# Altium footprint library GFZJ 主控制板.PcbLib: 26 footprints (part 1 of 2)
Each footprint in its own frame and in the unit in brackets; x right, y up, seen from the top. Pads: shape width x height; smd on the part's side, far side on the other; paste and mask are expansions set on the pad; w line width, h text height; cw(c..) or ccw(c..) is an arc to the next point about the centre after c.
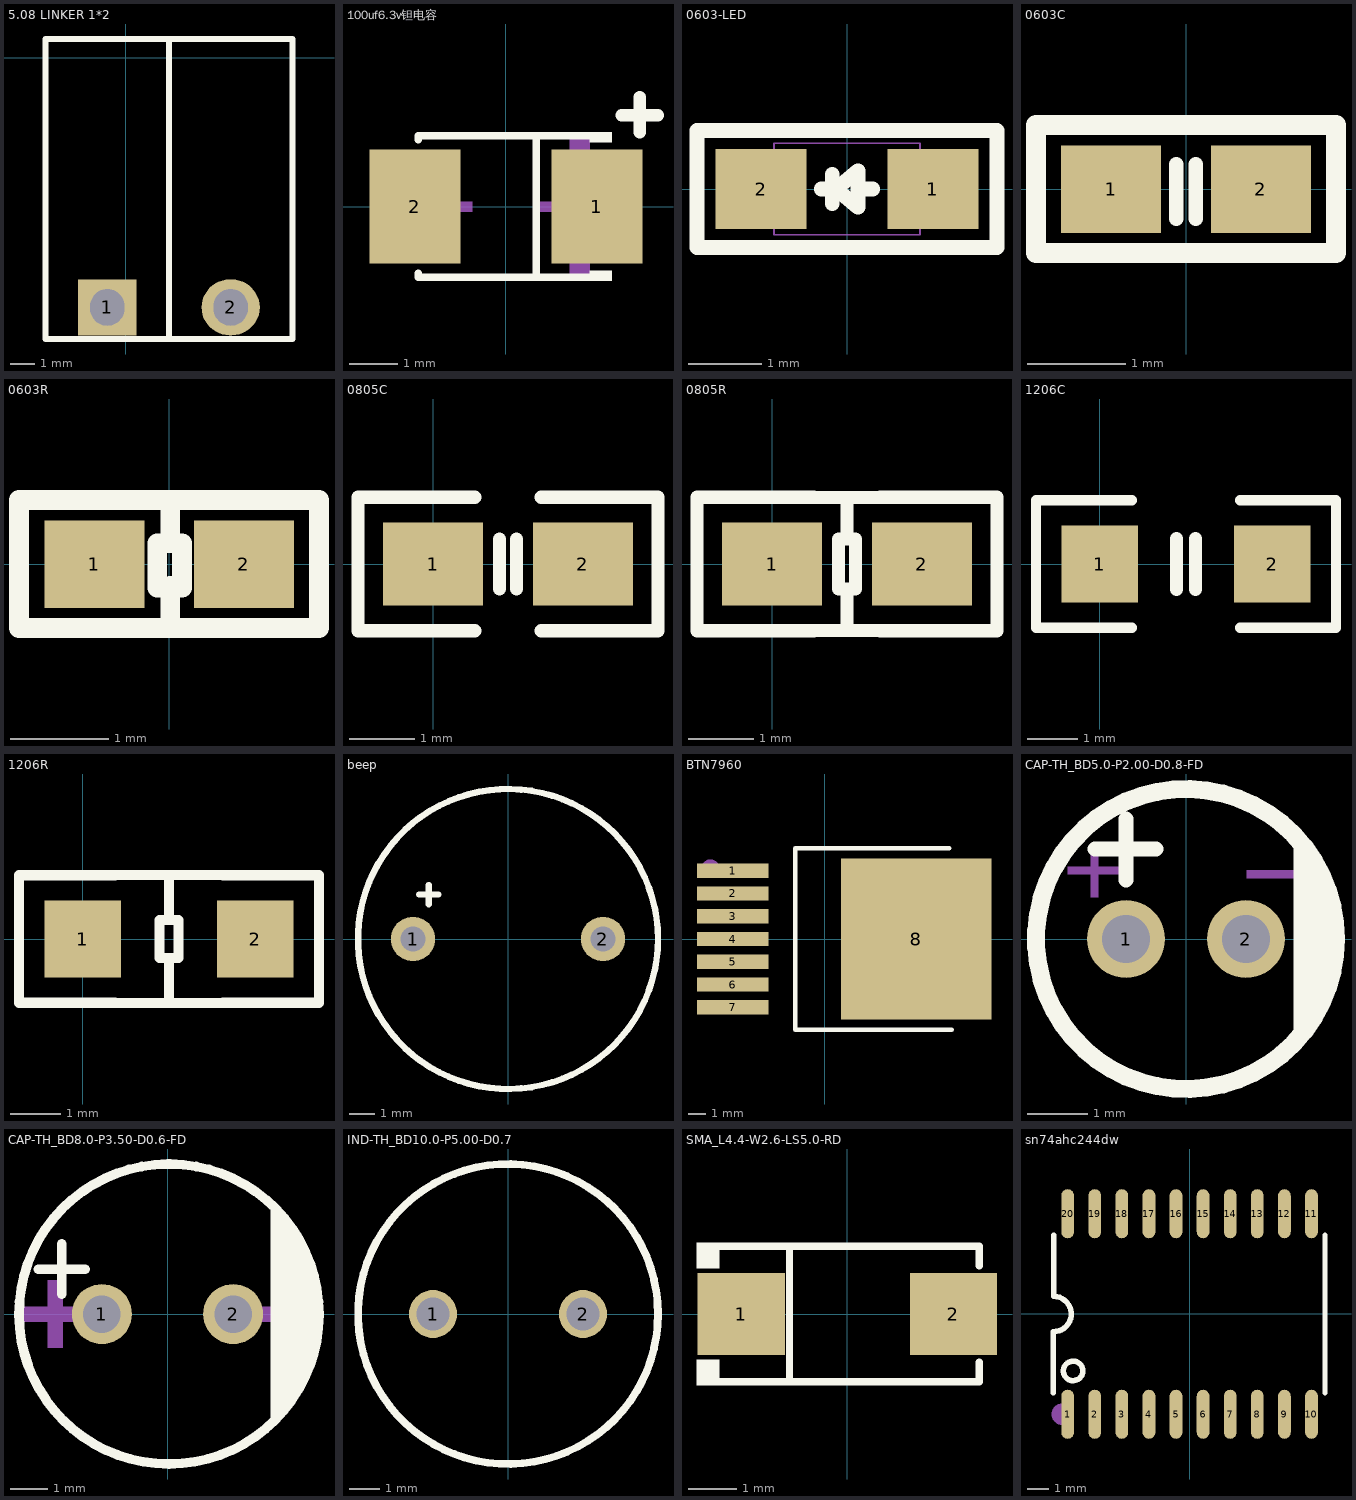
[diagram p0: the footprints below, top view; thin cyan lines are the x and y axes]

## 5.08 LINKER 1*2 [mm] "5.08MM间距接线端子"
pads (2):
  rect 2.4x2.3 hole 1.5 slot 1.4 at 0 deg: 1(-0.762,-10.287)
  oval 2.4x2.3 hole 1.5 slot 1.4 at 0 deg: 2(4.318,-10.287)
Top Overlay:
  lines w0.254: 1.778,-11.587 1.778,0.762 ; 1.778,-11.587 6.858,-11.587 6.858,0.762 1.778,0.762 ; 1.778,-11.587 -2.794,-11.587 -3.302,-11.587 -3.302,0.762 1.778,0.762

## 100uf6.3v钽电容 [mm]
pads (2):
  rect 1.9x2.376 smd: 1(1.899,0) 2(-1.899,0)
Top Overlay:
  region: 1.75,-1.552 1.75,-1.34 2.207,-1.34 2.207,-1.552
  region: 1.75,1.552 1.75,1.34 2.207,1.34 2.207,1.552
  lines w0.152: -1.826,-1.391 -1.826,-1.476 1.826,-1.476 ; -1.826,1.391 -1.826,1.476 1.826,1.476 ; 0.635,-1.476 0.635,1.476
  lines w0.254: 2.413,1.905 3.175,1.905 ; 2.794,1.552 2.794,2.286
Mechanical 15:
  region: 1.75,1.4 1.75,0.7 1.33,0.7 1.33,1.4
  region: 1.75,-1.4 1.75,-0.7 1.33,-0.7 1.33,-1.4
  region: 1.225,-0.7 1.225,0.7 1.015,0.7 1.015,-0.7
  region: 1.54,-0.105 1.54,0.105 0.7,0.105 0.7,-0.105
  region: -1.54,-0.105 -1.54,0.105 -0.7,0.105 -0.7,-0.105

## 0603-LED [mil]
height 170.08
pads (2):
  rect 49x43 smd: 1(46.26,0) 2(-46.26,0)
Top Overlay:
  lines w7.87: -13.78,0 -5.91,0 ; -7.87,-7.87 -7.87,7.87 ; 5.91,0 13.78,0 ; -5.91,0 5.91,9.84 5.91,-9.84 -5.91,0 ; -80.71,-31.5 80.71,-31.5 80.71,31.5 -80.71,31.5 -80.71,-31.5
Mechanical 8:
  lines w1: -39.37,-24.61 39.37,-24.61 39.37,24.61 -39.37,24.61 -39.37,-24.61

## 0603C [mil]
height 170.08
pads (2):
  rect 40x35 smd: 1(-29.92,0) 2(29.92,0)
Top Overlay:
  lines w5.91: -3.94,-11.81 -3.94,9.84 ; 3.94,-11.81 3.94,9.84
  lines w7.87: -60,-25.59 60,-25.59 60,25.59 -60,25.59 -60,-25.59

## 0603R [mil]
height 170.08
pads (2):
  rect 40x35 smd: 1(-29.92,0) 2(29.92,0)
Top Overlay:
  lines w7.87: 0.39,-21.65 0.39,-8.66 ; 0.39,9.45 0.39,21.65 ; -60.07,-25.59 59.93,-25.59 59.93,25.59 -60.07,25.59 -60.07,-25.59 ; -4.72,-9.45 -4.72,8.27 5.12,8.27 5.12,-9.45 -4.72,-9.45

## 0805C [mil]
pads (2):
  rect 60x50 smd: 1(0,0) 2(90,0)
Top Overlay:
  lines w7.87: 40,-15 40,15 ; 50,-15 50,15
  lines w8: 25,-40 -45,-40 -45,40 25,40 ; 65,-40 135,-40 135,40 65,40

## 0805R [mil]
pads (2):
  rect 60x50 smd: 1(0,0) 2(90,0)
Top Overlay:
  lines w7.87: 25,-40 65,-40 ; 25,40 65,40 ; 45,-40 45,-15 ; 45,15 45,40 ; 40,-15 40,15 50,15 50,-15 40,-15
  lines w8: 25,-40 -45,-40 -45,40 25,40 ; 65,-40 135,-40 135,40 65,40

## 1206C [mil]
pads (2):
  rect 60x60 smd: 1(0,0) 2(135,0)
Top Overlay:
  lines w8: 25,-50 -50,-50 -50,50 25,50 ; 110,-50 185,-50 185,50 110,50
  lines w10: 60,-20 60,20 ; 75,-20 75,20

## 1206R [mil]
pads (2):
  rect 60x60 smd: 1(0,0) 2(135,0)
Top Overlay:
  lines w7.87: 25,-50 110,-50 ; 25,50 110,50 ; 67.5,-50 67.5,-15 ; 67.5,15 67.5,50 ; 60,-15 75,-15 75,15 60,15 60,-15
  lines w8: 25,-50 -50,-50 -50,50 25,50 ; 110,-50 185,-50 185,50 110,50

## beep [mil]
pads (2):
  round 70 hole 40: 1(-149.61,0) 2(149.61,0)
Top Overlay:
  circle w10: c0,0 r236.22
  lines w10: -140,70 -110,70 ; -125,55 -125,85

## BTN7960 [mm]
pads (8):
  rect 4x0.8 smd: 1(-5.123,3.81) 2(-5.123,2.54) 3(-5.123,1.27) 4(-5.123,0) 5(-5.123,-1.27) 6(-5.123,-2.54) 7(-5.123,-3.81)
  rect 8.4x9 smd: 8(5.123,0)
Top Overlay:
  lines w0.254: 6.958,5.076 -1.649,5.076 -1.649,-5.076 7.085,-5.076
Mechanical 15:
  circle w0.5: c-6.377,3.937 r0.25

## CAP-TH_BD5.0-P2.00-D0.8-FD [mm] "5*11 （16v 100uf）"
pads (2):
  round 1.3 hole 0.8: 1(-1,0) 2(1,0)
Top Overlay:
  circle w0.3: c0,0 r2.5
  region: 1.794,1.651 1.961,1.491 2.225,1.111 2.407,0.685 2.5,0.231 2.5,-0.231 2.407,-0.685 2.225,-1.111 1.961,-1.491 1.794,-1.651
  lines w0.254: -1.516,1.5 -0.5,1.5 ; -1,0.984 -1,2
Mechanical 15:
  region: -1.969,1.206 -1.08,1.206 -1.08,1.079 -1.969,1.079
  region: -1.588,0.699 -1.588,1.587 -1.461,1.587 -1.46,0.699
  region: 1.016,1.143 1.905,1.143 1.905,1.016 1.016,1.016

## CAP-TH_BD8.0-P3.50-D0.6-FD [mm] "8*12 (100uf 50v) (1000uf 10v)"
pads (2):
  round 1.6 hole 1: 1(-1.75,0) 2(1.75,0)
Top Overlay:
  region: 2.75,-3 2.941,-2.8 3.268,-2.355 3.536,-1.872 3.741,-1.359 3.88,-0.824 3.95,-0.276 3.95,0.276 3.88,0.824 3.741,1.359 3.536,1.872 3.268,2.355 2.941,2.8 2.75,3
  lines w0.254: -3.445,1.2 -2.2,1.2 ; -2.822,0.527 -2.822,1.873 ; 0.003,4 ccw(c0.038,0.001) 0.074,4
Mechanical 15:
  region: 3.5,0.2 2.1,0.2 2.1,-0.2 3.7,-0.2 3.9,-0.2 3.9,0.2
  region: -2.5,0.2 -3.9,0.2 -3.9,-0.2 -2.3,-0.2 -2.1,-0.2 -2.1,0.2
  region: -3.2,0.5 -3.2,-0.9 -2.8,-0.9 -2.8,0.7 -2.8,0.9 -3.2,0.9

## IND-TH_BD10.0-P5.00-D0.7 [mm] "100uh 电感"
pads (2):
  round 1.6 hole 1.1: 1(-2.5,0) 2(2.5,0)
Top Overlay:
  circle w0.254: c0,0 r5

## SMA_L4.4-W2.6-LS5.0-RD [mm] "SMA 二极管"
pads (2):
  rect 1.8x1.7 smd: 1(-2.192,0) 2(2.192,0)
Top Overlay:
  region: -2.65,-1.477 -2.65,-0.949 -3.107,-0.949 -3.107,-1.477
  region: -2.65,1.477 -2.65,0.949 -3.107,0.949 -3.107,1.477
  lines w0.152: -2.726,-1.401 2.726,-1.401 2.726,-1 ; -2.726,1.401 2.726,1.401 2.726,1 ; -1.197,-1.401 -1.197,1.401
Mechanical 15:
  region: 2.153,-0.663 2.153,0.663 1.954,0.663 1.954,-0.663
  region: 2.451,-0.099 2.451,0.099 1.656,0.099 1.656,-0.099
  region: -2.451,-0.099 -2.451,0.099 -1.656,0.099 -1.656,-0.099

## sn74ahc244dw [mm]
pads (20):
  oval 0.6x2.3 smd: 1(-5.715,-4.7) 2(-4.445,-4.7) 3(-3.175,-4.7) 4(-1.905,-4.7) 5(-0.635,-4.7) 6(0.635,-4.7) 7(1.905,-4.7) 8(3.175,-4.7) 9(4.445,-4.7) 10(5.715,-4.7) 11(5.715,4.7) 12(4.445,4.7) 13(3.175,4.7) 14(1.905,4.7) 15(0.635,4.7) 16(-0.635,4.7) 17(-1.905,4.7) 18(-3.175,4.7) 19(-4.445,4.7) 20(-5.715,4.7)
Top Overlay:
  circle w0.254: c-5.461,-2.667 r0.458
  lines w0.254: -6.387,-3.683 -6.387,-0.826 ccw(c-6.374,0) -6.362,0.825 -6.362,3.683 ; 6.35,-3.683 6.35,-3.096 6.35,3.048 6.35,3.683
Mechanical 15:
  circle w0.5: c-5.969,-4.699 r0.25